# EAGLE library part EPM7128-J84 (library altera)
EPM70128 MAX 7000 family
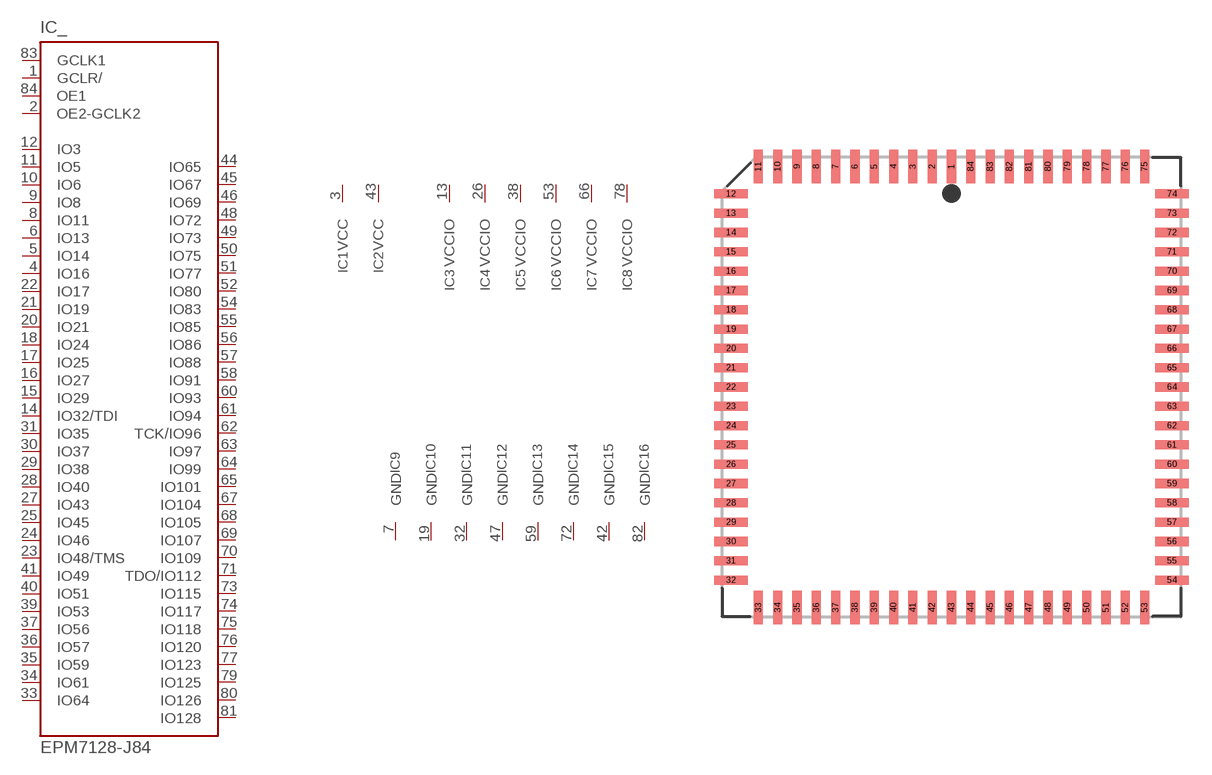
[diagram p9: symbol with the pads of PLCC84; footprint PLCC84]

Designator prefix IC; gates _=7128-84 1=VCC 2=VCC 3=VCCIO 4=VCCIO 5=VCCIO 6=VCCIO 7=VCCIO 8=VCCIO 9=GND 10=GND 11=GND 12=GND 13=GND 14=GND 15=GND 16=GND

## EPM7128-J84  [PLCC84]
1  _:GCLR/  in
2  _:OE2-GCLK2  in
3  1:VCC  pwr
4  _:IO16
5  _:IO14
6  _:IO13
7  9:GND  pwr
8  _:IO11
9  _:IO8
10  _:IO6
11  _:IO5
12  _:IO3
13  3:VCCIO  pwr
14  _:IO32/TDI
15  _:IO29
16  _:IO27
17  _:IO25
18  _:IO24
19  10:GND  pwr
20  _:IO21
21  _:IO19
22  _:IO17
23  _:IO48/TMS
24  _:IO46
25  _:IO45
26  4:VCCIO  pwr
27  _:IO43
28  _:IO40
29  _:IO38
30  _:IO37
31  _:IO35
32  11:GND  pwr
33  _:IO64
34  _:IO61
35  _:IO59
36  _:IO57
37  _:IO56
38  5:VCCIO  pwr
39  _:IO53
40  _:IO51
41  _:IO49
42  15:GND  pwr
43  2:VCC  pwr
44  _:IO65
45  _:IO67
46  _:IO69
47  12:GND  pwr
48  _:IO72
49  _:IO73
50  _:IO75
51  _:IO77
52  _:IO80
53  6:VCCIO  pwr
54  _:IO83
55  _:IO85
56  _:IO86
57  _:IO88
58  _:IO91
59  13:GND  pwr
60  _:IO93
61  _:IO94
62  _:TCK/IO96
63  _:IO97
64  _:IO99
65  _:IO101
66  7:VCCIO  pwr
67  _:IO104
68  _:IO105
69  _:IO107
70  _:IO109
71  _:TDO/IO112
72  14:GND  pwr
73  _:IO115
74  _:IO117
75  _:IO118
76  _:IO120
77  _:IO123
78  8:VCCIO  pwr
79  _:IO125
80  _:IO126
81  _:IO128
82  16:GND  pwr
83  _:GCLK1  in
84  _:OE1  in

## Footprint PLCC84 (pad centres in mm)
Plastic J-Lead Chip Carrier
smd 0.6 x 2.2: 1 0,14.5; 2 -1.27,14.5; 3 -2.54,14.5; 4 -3.81,14.5; 5 -5.08,14.5; 6 -6.35,14.5; 7 -7.62,14.5; 8 -8.89,14.5; 9 -10.16,14.5; 10 -11.43,14.5; 11 -12.7,14.5; 33 -12.7,-14.5; 34 -11.43,-14.5; 35 -10.16,-14.5; 36 -8.89,-14.5; 37 -7.62,-14.5; 38 -6.35,-14.5; 39 -5.08,-14.5; 40 -3.81,-14.5; 41 -2.54,-14.5; 42 -1.27,-14.5; 43 0,-14.5; 44 1.27,-14.5; 45 2.54,-14.5; 46 3.81,-14.5; 47 5.08,-14.5; 48 6.35,-14.5; 49 7.62,-14.5; 50 8.89,-14.5; 51 10.16,-14.5; 52 11.43,-14.5; 53 12.7,-14.5; 75 12.7,14.5; 76 11.43,14.5; 77 10.16,14.5; 78 8.89,14.5; 79 7.62,14.5; 80 6.35,14.5; 81 5.08,14.5; 82 3.81,14.5; 83 2.54,14.5; 84 1.27,14.5
smd 2.2 x 0.6: 12 -14.5,12.7; 13 -14.5,11.43; 14 -14.5,10.16; 15 -14.5,8.89; 16 -14.5,7.62; 17 -14.5,6.35; 18 -14.5,5.08; 19 -14.5,3.81; 20 -14.5,2.54; 21 -14.5,1.27; 22 -14.5,0; 23 -14.5,-1.27; 24 -14.5,-2.54; 25 -14.5,-3.81; 26 -14.5,-5.08; 27 -14.5,-6.35; 28 -14.5,-7.62; 29 -14.5,-8.89; 30 -14.5,-10.16; 31 -14.5,-11.43; 32 -14.5,-12.7; 54 14.5,-12.7; 55 14.5,-11.43; 56 14.5,-10.16; 57 14.5,-8.89; 58 14.5,-7.62; 59 14.5,-6.35; 60 14.5,-5.08; 61 14.5,-3.81; 62 14.5,-2.54; 63 14.5,-1.27; 64 14.5,0; 65 14.5,1.27; 66 14.5,2.54; 67 14.5,3.81; 68 14.5,5.08; 69 14.5,6.35; 70 14.5,7.62; 71 14.5,8.89; 72 14.5,10.16; 73 14.5,11.43; 74 14.5,12.7